# Altium footprint library DIOM5436X247N.PcbLib: 1 footprints
Each footprint in its own frame and in the unit in brackets; x right, y up, seen from the top. Pads: shape width x height; smd on the part's side, far side on the other; paste and mask are expansions set on the pad; w line width, h text height; cw(c..) or ccw(c..) is an arc to the next point about the centre after c.
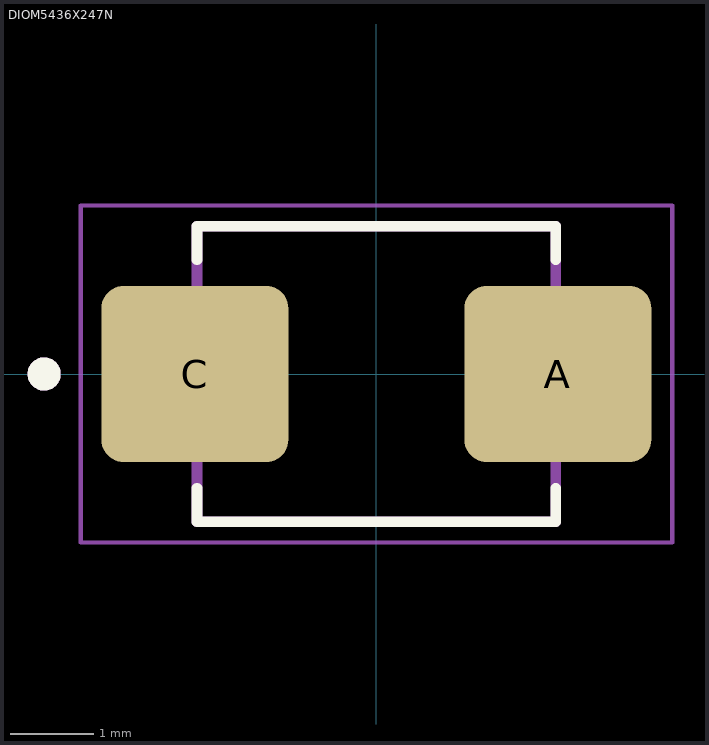
[diagram p0: the footprint, top view; thin cyan lines are the x and y axes]

## DIOM5436X247N [mm]
height 2.47
pads (2):
  rrect25% 2.25x2.12 smd: A(2.185,0) C(-2.185,0)
Top Overlay:
  circle w0.2: c-4,0 r0.1
  lines w0.127: -2.16,-1.374 -2.16,-1.78 2.16,-1.78 2.16,-1.374 ; -2.16,1.374 -2.16,1.78 2.16,1.78 2.16,1.374
Mechanical 13:
  circle w0.2: c-4,0 r0.1
  lines w0.127: -2.16,-1.78 -2.16,1.78 2.16,1.78 2.16,-1.78 -2.16,-1.78
Mechanical 15:
  lines w0.05: -3.56,-2.03 3.56,-2.03 3.56,2.03 -3.56,2.03 -3.56,-2.03
3D body "step_temp.STEP": height 0.79, standoff -1.68, extent -2.72,-1.78 2.72,1.78